# Altium integrated library TSW-104-06-L-S.IntLib: 1 symbol
Pins are listed as number, name and electrical type; pins without a type are passive.

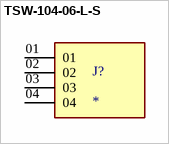
[diagram p0: symbol TSW-104-06-L-S]

## TSW-104-06-L-S
designator J?
MP: TSW-104-06-L-S; Package: None; Price: None; Value: *; Availability: Unavailable
footprint SAMTEC_TSW-104-06-L-S
pins: 01, 02, 03, 04